# Altium footprint library CH340B.PcbLib: 1 footprints
Each footprint in its own frame and in the unit in brackets; x right, y up, seen from the top. Pads: shape width x height; smd on the part's side, far side on the other; paste and mask are expansions set on the pad; w line width, h text height; cw(c..) or ccw(c..) is an arc to the next point about the centre after c.
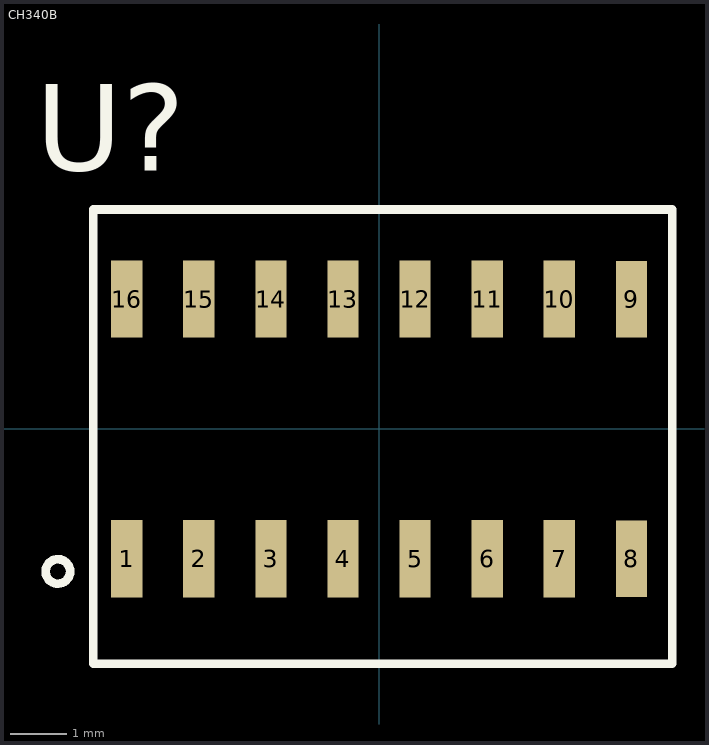
[diagram p0: the footprint, top view; thin cyan lines are the x and y axes]

## CH340B [mm] "USB to Serial"
pads (16):
  rect 0.55x1.36 smd: 1(-4.445,-2.287) 2(-3.175,-2.287) 3(-1.905,-2.287) 4(-0.635,-2.287) 5(0.635,-2.287) 6(1.905,-2.287) 7(3.175,-2.287) 10(3.175,2.287) 11(1.905,2.287) 12(0.635,2.287) 13(-0.635,2.287) 14(-1.905,2.287) 15(-3.175,2.287) 16(-4.445,2.287)
  rect 0.55x1.35 smd: 8(4.445,-2.287) 9(4.445,2.287)
Top Overlay:
  circle w0.152: c-5.657,-2.51 r0.215
  lines w0.152: -5.036,-4.135 5.164,-4.135 5.164,3.865 -5.036,3.865 -5.036,-4.135
  text "U?" at -6.045,4.547 h1.52